# EAGLE library part MCP73871 (library stepOSP)
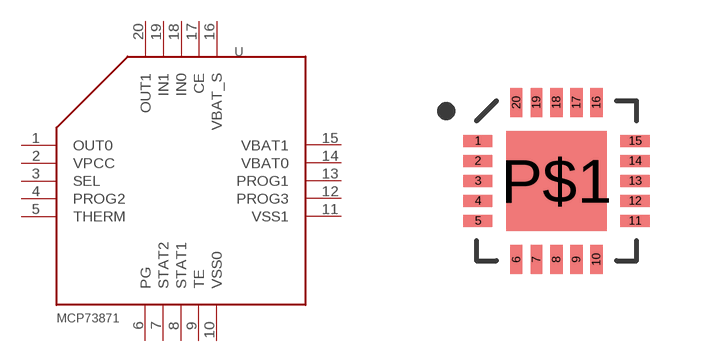
[diagram p44: symbol with the pads of QFN_20_4X4; footprint QFN_20_4X4]

Designator prefix -

## MCP73871  [QFN_20_4X4]
1  OUT0
2  VPCC
3  SEL
4  PROG2
5  THERM
6  PG
7  STAT2
8  STAT1
9  TE
10  VSS0
11  VSS1
12  PROG3
13  PROG1
14  VBAT0
15  VBAT1
16  VBAT_S
17  CE
18  IN0
19  IN1
20  OUT1

## Footprint QFN_20_4X4 (pad centres in mm)
smd 0.73 x 0.3: 1 -1.965,1; 2 -1.965,0.5; 3 -1.965,0; 4 -1.965,-0.5; 5 -1.965,-1; 11 1.965,-1; 12 1.965,-0.5; 13 1.965,0; 14 1.965,0.5; 15 1.965,1
smd 0.3 x 0.73: 6 -1,-1.965; 7 -0.5,-1.965; 8 0,-1.965; 9 0.5,-1.965; 10 1,-1.965; 16 1,1.965; 17 0.5,1.965; 18 0,1.965; 19 -0.5,1.965; 20 -1,1.965
smd 2.5 x 2.5: P$1 0,0